# Altium schematic symbol library SCH - POWER - LINEAR VREG - TI LP3990-1P2NGG.SchLib: 1 symbol
Pins are listed as number, name and electrical type; pins without a type are passive.

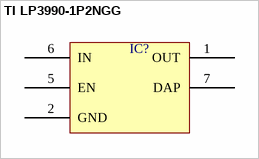
[diagram p0: symbol TI LP3990-1P2NGG]

## TI LP3990-1P2NGG
designator IC?  (value not drawn)
pins: 1 OUT, 2 GND, 5 EN, 6 IN, 7 DAP